# Altium footprint library S3BXHSM4TBLFSN.PcbLib: 1 footprints
Each footprint in its own frame and in the unit in brackets; x right, y up, seen from the top. Pads: shape width x height; smd on the part's side, far side on the other; paste and mask are expansions set on the pad; w line width, h text height; cw(c..) or ccw(c..) is an arc to the next point about the centre after c.
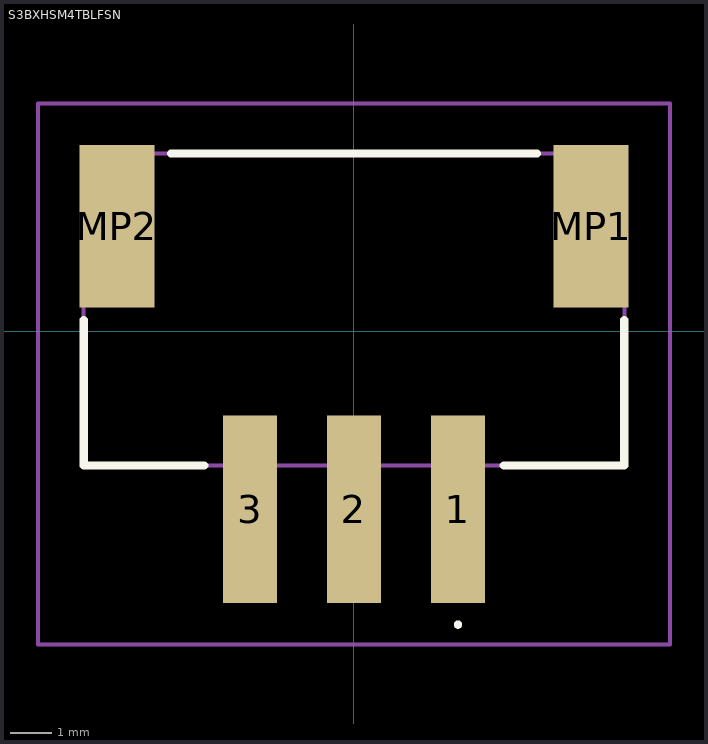
[diagram p0: the footprint, top view; thin cyan lines are the x and y axes]

## S3BXHSM4TBLFSN [mm]
pads (5):
  rect 1.3x4.5 smd: 1(2.5,-4.275) 2(0,-4.275) 3(-2.5,-4.275)
  rect 1.8x3.9 smd: MP1(5.7,2.525) MP2(-5.7,2.525)
Top Overlay:
  lines w0.1: 2.5,-7.1 cw(c2.5,-7.05) 2.5,-7 ; 2.5,-7.1 2.5,-7.1 ; 2.5,-7.1 ccw(c2.5,-7.05) 2.5,-7 ; 2.5,-7 2.5,-7
  lines w0.2: -6.5,0.275 -6.5,-3.225 -3.6,-3.225 ; -4.4,4.275 4.4,4.275 ; 3.6,-3.225 6.5,-3.225 6.5,0.275
Mechanical 15:
  lines w0.1: -6.5,-3.225 6.5,-3.225 6.5,4.275 -6.5,4.275 -6.5,-3.225
Mechanical 20:
  lines w0.1: -7.6,-7.525 7.6,-7.525 7.6,5.475 -7.6,5.475 -7.6,-7.525